# Altium footprint library SW_1571983-4.PcbLib: 1 footprints
Each footprint in its own frame and in the unit in brackets; x right, y up, seen from the top. Pads: shape width x height; smd on the part's side, far side on the other; paste and mask are expansions set on the pad; w line width, h text height; cw(c..) or ccw(c..) is an arc to the next point about the centre after c.
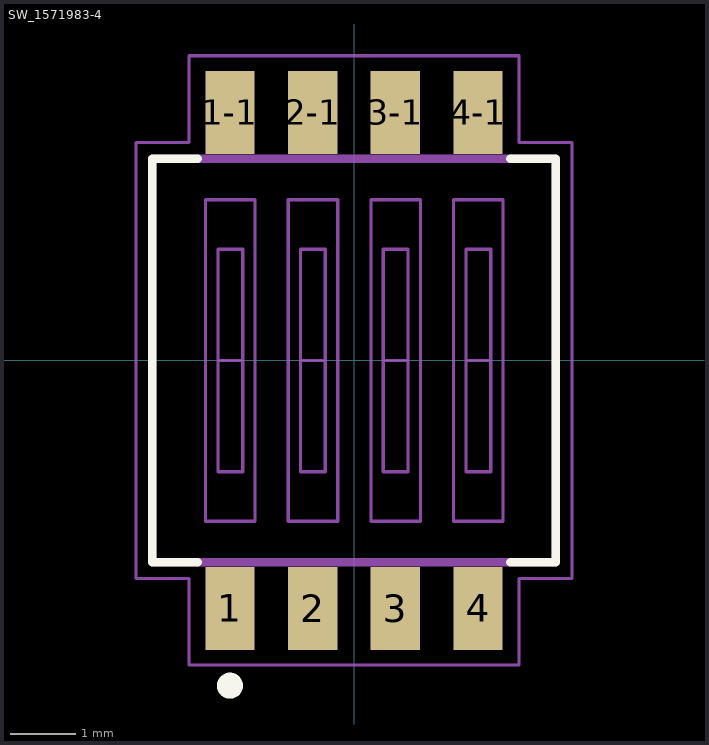
[diagram p0: the footprint, top view; thin cyan lines are the x and y axes]

## SW_1571983-4 [mm]
pads (8):
  rect 0.76x1.27 smd: 1(-1.905,-3.81) 1-1(-1.905,3.81) 2(-0.635,-3.81) 2-1(-0.635,3.81) 3(0.635,-3.81) 3-1(0.635,3.81) 4(1.905,-3.81) 4-1(1.905,3.81)
Top Overlay:
  circle w0.2: c-1.905,-4.996 r0.1
  lines w0.127: -2.4,-3.1 -3.1,-3.1 -3.1,3.1 -2.4,3.1 ; 2.4,-3.1 3.1,-3.1 3.1,3.1 2.4,3.1
Mechanical 13:
  lines w0.05: -2.09,0 -1.71,0 ; -2.09,0 -2.09,-1.71 -1.71,-1.71 -1.71,0 ; -2.09,0 -2.09,1.71 -1.71,1.71 -1.71,0 ; -0.82,0 -0.44,0 ; -0.82,0 -0.82,-1.71 -0.44,-1.71 -0.44,0 ; -0.82,0 -0.82,1.71 -0.44,1.71 -0.44,0 ; 0.45,0 0.83,0 ; 0.45,0 0.45,-1.71 0.83,-1.71 0.83,0 ; 0.45,0 0.45,1.71 0.83,1.71 0.83,0 ; 1.72,0 2.1,0 ; 1.72,0 1.72,-1.71 2.1,-1.71 2.1,0 ; 1.72,0 1.72,1.71 2.1,1.71 2.1,0 ; -2.28,-2.47 -2.28,2.47 -1.52,2.47 -1.52,-2.47 -2.28,-2.47 ; -1.01,-2.47 -1.01,2.47 -0.25,2.47 -0.25,-2.47 -1.01,-2.47 ; 0.26,-2.47 0.26,2.47 1.02,2.47 1.02,-2.47 0.26,-2.47 ; 1.53,-2.47 1.53,2.47 2.29,2.47 2.29,-2.47 1.53,-2.47
  lines w0.127: -3.1,-3.1 3.1,-3.1 3.1,3.1 -3.1,3.1 -3.1,-3.1
  text "4" at 1.748,-3.015 h0.4
  text "3" at 0.505,-2.994 h0.4
  text "2" at -0.796,-2.985 h0.4
  text "1" at -2.069,-2.966 h0.4
  text "ON" at -2.829,2.537 h0.41
Mechanical 15:
  lines w0.05: -3.35,-3.35 -3.35,3.35 -2.535,3.35 -2.535,4.68 2.535,4.68 2.535,3.35 3.35,3.35 3.35,-3.35 2.535,-3.35 2.535,-4.68 -2.535,-4.68 -2.535,-3.35 -3.35,-3.35
3D body "1571983-4.step": height 2.31, standoff 0, extent -3.152,-4.066 3.048,4.064